# Altium integrated library transistor_mch3333A.IntLib: 1 symbol
Pins are listed as number, name and electrical type; pins without a type are passive.

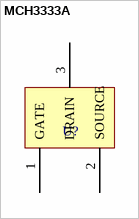
[diagram p0: symbol MCH3333A]

## MCH3333A
designator U?  (value not drawn)
footprint PCBComponent_1
footprint PCBComponent_1
footprint PCBComponent_1
pins: 1 GATE, 2 SOURCE, 3 DRAIN